# EAGLE library part SUBD15-FEM (library pierre_vv)
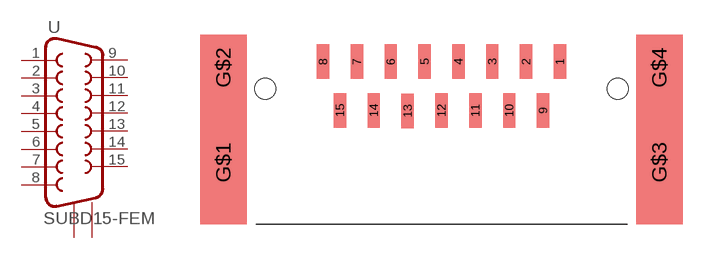
[diagram p1: symbol with the pads of SUBD15-ERNI-154-240; footprint SUBD15-ERNI-154-240]

Designator prefix -

## SUBD15-FEM  [SUBD15-ERNI-154-240]
1  1  pas
2  2  pas
3  3  pas
4  4  pas
5  5  pas
6  6  pas
7  7  pas
8  8  pas
9  9  pas
10  10  pas
11  11  pas
12  12  pas
13  13  pas
14  14  pas
15  15  pas
G$1  GND1
G$3  GND2

## Footprint SUBD15-ERNI-154-240 (pad centres in mm)
smd 1 x 2.8: 1 9.59,13.15; 2 6.85,13.15; 3 4.11,13.15; 4 1.37,13.15; 5 -1.37,13.15; 6 -4.11,13.15; 7 -6.85,13.15; 8 -9.59,13.15; 9 8.22,9.2; 10 5.48,9.2; 11 2.74,9.2; 12 0,9.2; 13 -2.74,9.15; 14 -5.48,9.2; 15 -8.22,9.2
smd 3.8 x 10: G$1 -17.65,5; G$3 17.65,5
smd 3.8 x 5.35: G$2 -17.65,12.675; G$4 17.65,12.675
hole 1.7 at -14.25,10.95
hole 1.7 at 14.25,10.95